# Altium schematic symbol library SCH - MCU - STM32 - ST MICROELECTRONICS STM32F768AIYX WLCSP180.SchLib: 1 symbol
Pins are listed as number, name and electrical type; pins without a type are passive.

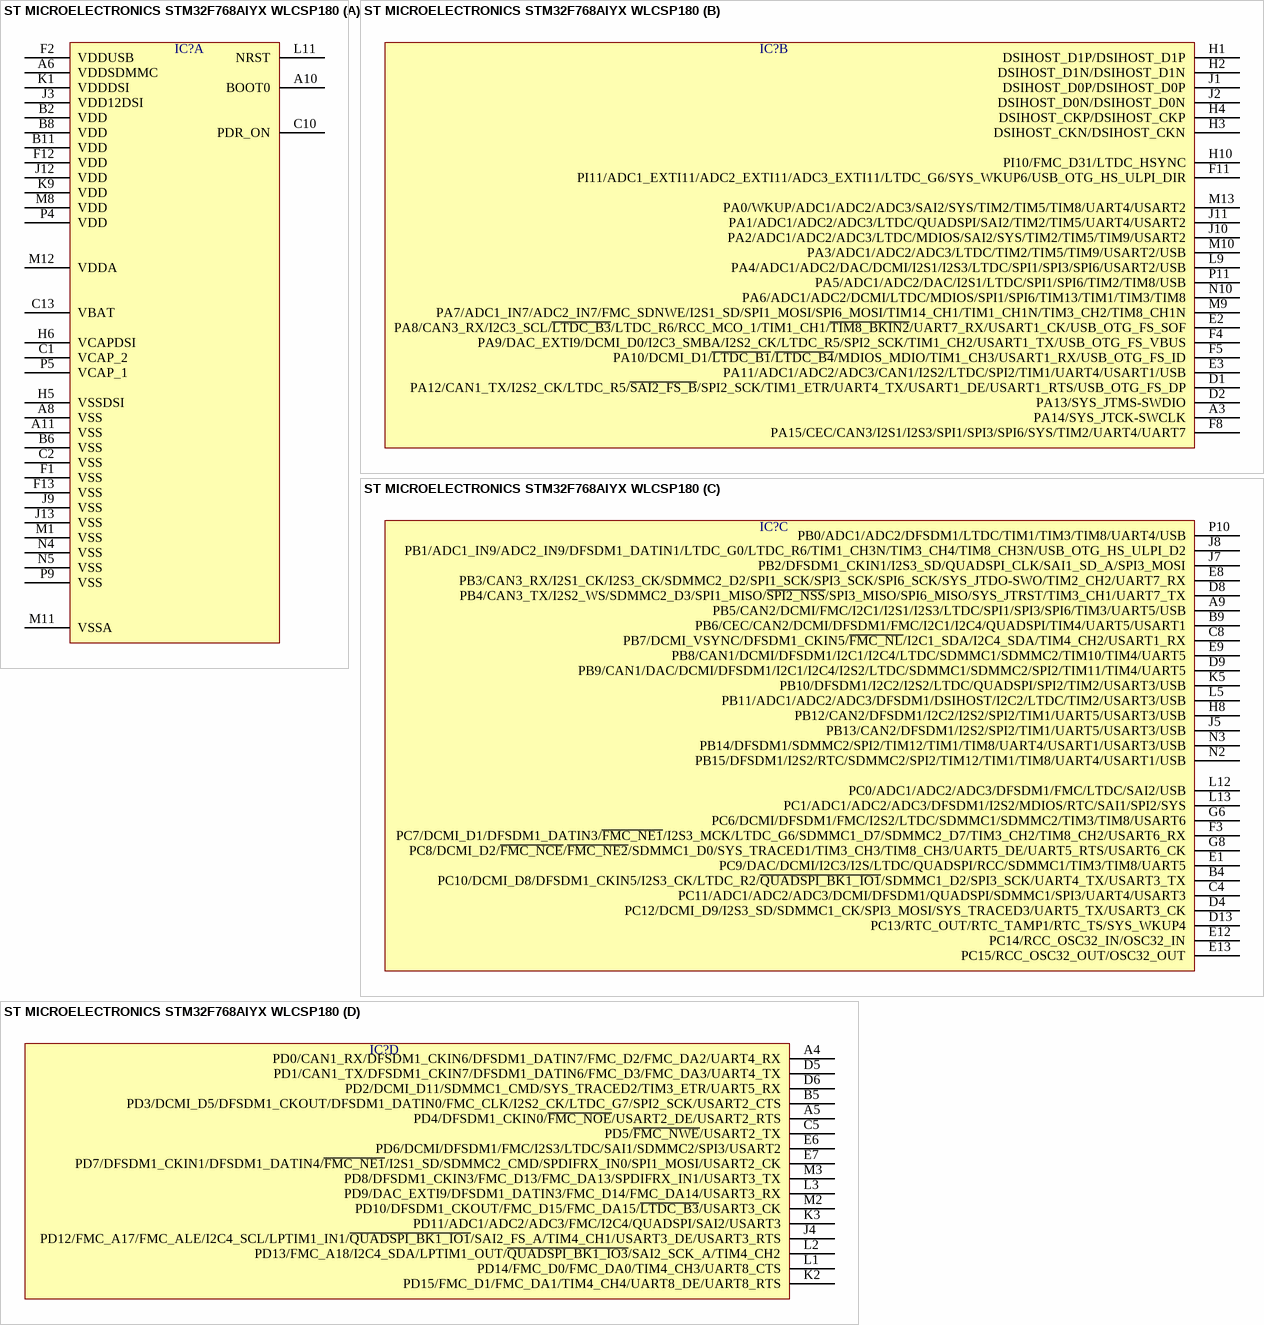
[diagram p0: symbol ST MICROELECTRONICS STM32F768AIYX WLCSP180]

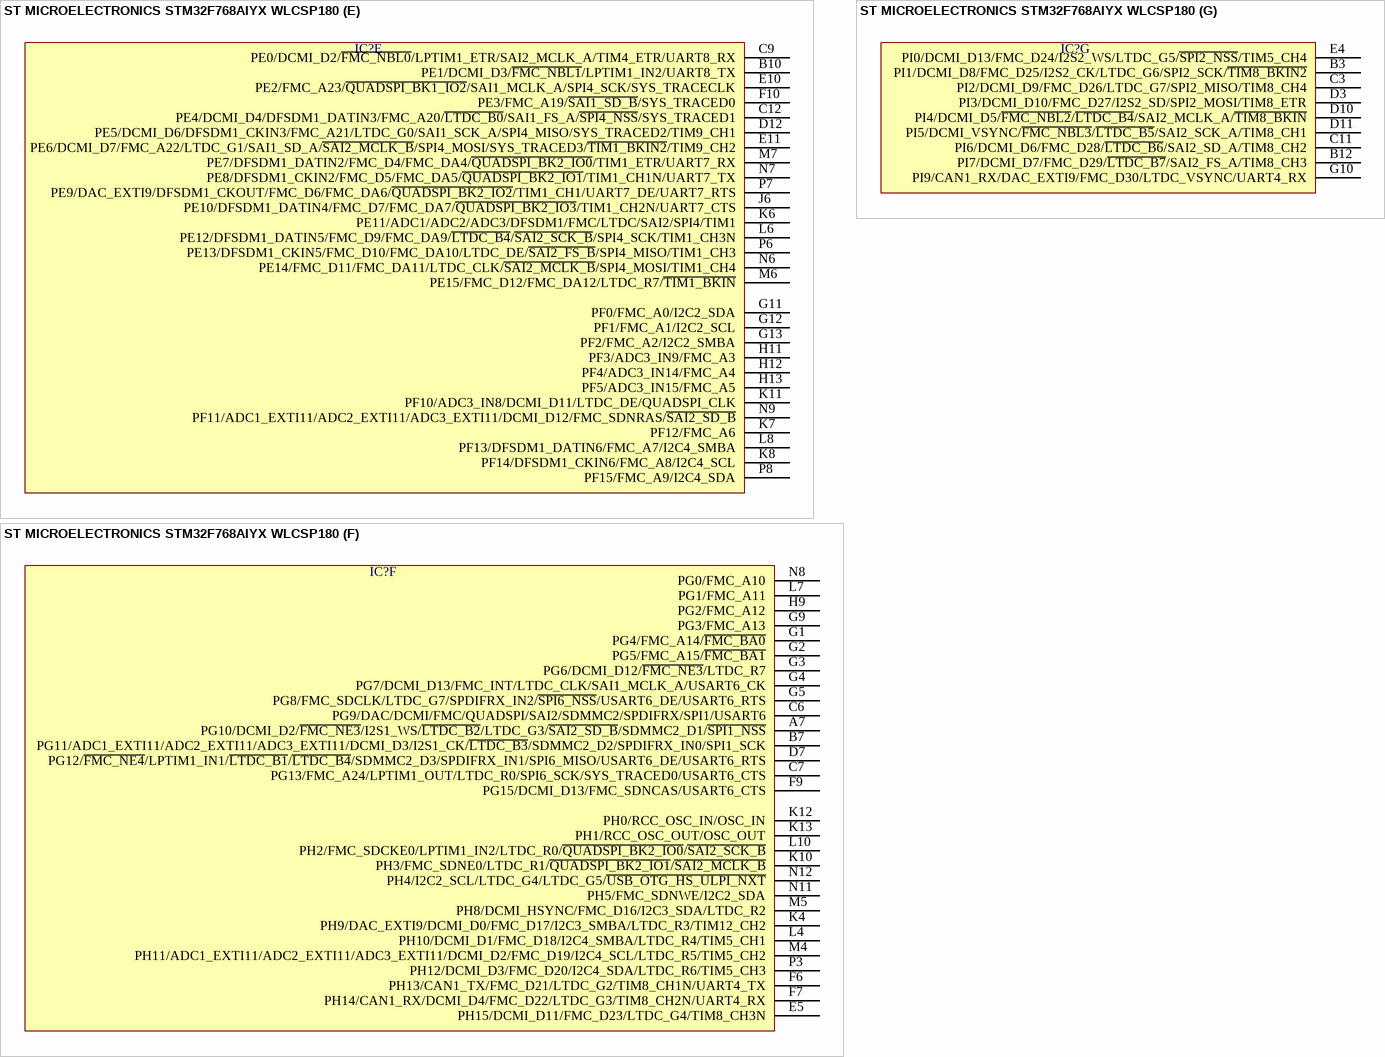
[diagram p1: symbol ST MICROELECTRONICS STM32F768AIYX WLCSP180]

## ST MICROELECTRONICS STM32F768AIYX WLCSP180
designator IC?  (value not drawn)
part A pins: A6 VDDSDMMC, A8 VSS, A10 BOOT0, A11 VSS, B2 VDD, B6 VSS, B8 VDD, B11 VDD, C1 VCAP_2, C2 VSS, C10 PDR_ON, C13 VBAT, F1 VSS, F2 VDDUSB, F12 VDD, F13 VSS, H5 VSSDSI, H6 VCAPDSI, J3 VDD12DSI, J9 VSS, J12 VDD, J13 VSS, K1 VDDDSI, K9 VDD, L11 NRST, M1 VSS, M8 VDD, M11 VSSA, M12 VDDA, N4 VSS, N5 VSS, P4 VDD, P5 VCAP_1, P9 VSS
part B pins: A3 PA14/SYS_JTCK-SWCLK, D1 PA12/CAN1_TX/I2S2_CK/LTDC_R5/~{SAI2_FS_B}/SPI2_SCK/TIM1_ETR/UART4_TX/USART1_DE/USART1_RTS/USB_OTG_FS_DP, D2 PA13/SYS_JTMS-SWDIO, E2 PA8/CAN3_RX/I2C3_SCL/~{LTDC_B3}/LTDC_R6/RCC_MCO_1/TIM1_CH1/~{TIM8_BKIN2}/UART7_RX/USART1_CK/USB_OTG_FS_SOF, E3 PA11/ADC1/ADC2/ADC3/CAN1/I2S2/LTDC/SPI2/TIM1/UART4/USART1/USB, F4 PA9/DAC_EXTI9/DCMI_D0/I2C3_SMBA/I2S2_CK/LTDC_R5/SPI2_SCK/TIM1_CH2/USART1_TX/USB_OTG_FS_VBUS, F5 PA10/DCMI_D1/~{LTDC_B1}/~{LTDC_B4}/MDIOS_MDIO/TIM1_CH3/USART1_RX/USB_OTG_FS_ID, F8 PA15/CEC/CAN3/I2S1/I2S3/SPI1/SPI3/SPI6/SYS/TIM2/UART4/UART7, F11 PI11/ADC1_EXTI11/ADC2_EXTI11/ADC3_EXTI11/LTDC_G6/SYS_WKUP6/USB_OTG_HS_ULPI_DIR, H1 DSIHOST_D1P/DSIHOST_D1P, H2 DSIHOST_D1N/DSIHOST_D1N, H3 DSIHOST_CKN/DSIHOST_CKN, H4 DSIHOST_CKP/DSIHOST_CKP, H10 PI10/FMC_D31/LTDC_HSYNC, J1 DSIHOST_D0P/DSIHOST_D0P, J2 DSIHOST_D0N/DSIHOST_D0N, J10 PA2/ADC1/ADC2/ADC3/LTDC/MDIOS/SAI2/SYS/TIM2/TIM5/TIM9/USART2, J11 PA1/ADC1/ADC2/ADC3/LTDC/QUADSPI/SAI2/TIM2/TIM5/UART4/USART2, L9 PA4/ADC1/ADC2/DAC/DCMI/I2S1/I2S3/LTDC/SPI1/SPI3/SPI6/USART2/USB, M9 PA7/ADC1_IN7/ADC2_IN7/FMC_SDNWE/I2S1_SD/SPI1_MOSI/SPI6_MOSI/TIM14_CH1/TIM1_CH1N/TIM3_CH2/TIM8_CH1N, M10 PA3/ADC1/ADC2/ADC3/LTDC/TIM2/TIM5/TIM9/USART2/USB, M13 PA0/WKUP/ADC1/ADC2/ADC3/SAI2/SYS/TIM2/TIM5/TIM8/UART4/USART2, N10 PA6/ADC1/ADC2/DCMI/LTDC/MDIOS/SPI1/SPI6/TIM13/TIM1/TIM3/TIM8, P11 PA5/ADC1/ADC2/DAC/I2S1/LTDC/SPI1/SPI6/TIM2/TIM8/USB
part C pins: A9 PB5/CAN2/DCMI/FMC/I2C1/I2S1/I2S3/LTDC/SPI1/SPI3/SPI6/TIM3/UART5/USB, B4 PC10/DCMI_D8/DFSDM1_CKIN5/I2S3_CK/LTDC_R2/~{QUADSPI_BK1_IO1}/SDMMC1_D2/SPI3_SCK/UART4_TX/USART3_TX, B9 PB6/CEC/CAN2/DCMI/DFSDM1/FMC/I2C1/I2C4/QUADSPI/TIM4/UART5/USART1, C4 PC11/ADC1/ADC2/ADC3/DCMI/DFSDM1/QUADSPI/SDMMC1/SPI3/UART4/USART3, C8 PB7/DCMI_VSYNC/DFSDM1_CKIN5/~{FMC_NL}/I2C1_SDA/I2C4_SDA/TIM4_CH2/USART1_RX, D4 PC12/DCMI_D9/I2S3_SD/SDMMC1_CK/SPI3_MOSI/SYS_TRACED3/UART5_TX/USART3_CK, D8 PB4/CAN3_TX/I2S2_WS/SDMMC2_D3/SPI1_MISO/~{SPI2_NSS}/SPI3_MISO/SPI6_MISO/SYS_JTRST/TIM3_CH1/UART7_TX, D9 PB9/CAN1/DAC/DCMI/DFSDM1/I2C1/I2C4/I2S2/LTDC/SDMMC1/SDMMC2/SPI2/TIM11/TIM4/UART5, D13 PC13/RTC_OUT/RTC_TAMP1/RTC_TS/SYS_WKUP4, E1 PC9/DAC/DCMI/I2C3/I2S/LTDC/QUADSPI/RCC/SDMMC1/TIM3/TIM8/UART5, E8 PB3/CAN3_RX/I2S1_CK/I2S3_CK/SDMMC2_D2/SPI1_SCK/SPI3_SCK/SPI6_SCK/SYS_JTDO-SWO/TIM2_CH2/UART7_RX, E9 PB8/CAN1/DCMI/DFSDM1/I2C1/I2C4/LTDC/SDMMC1/SDMMC2/TIM10/TIM4/UART5, E12 PC14/RCC_OSC32_IN/OSC32_IN, E13 PC15/RCC_OSC32_OUT/OSC32_OUT, F3 PC7/DCMI_D1/DFSDM1_DATIN3/~{FMC_NE1}/I2S3_MCK/LTDC_G6/SDMMC1_D7/SDMMC2_D7/TIM3_CH2/TIM8_CH2/USART6_RX, G6 PC6/DCMI/DFSDM1/FMC/I2S2/LTDC/SDMMC1/SDMMC2/TIM3/TIM8/USART6, G8 PC8/DCMI_D2/~{FMC_NCE}/~{FMC_NE2}/SDMMC1_D0/SYS_TRACED1/TIM3_CH3/TIM8_CH3/UART5_DE/UART5_RTS/USART6_CK, H8 PB12/CAN2/DFSDM1/I2C2/I2S2/SPI2/TIM1/UART5/USART3/USB, J5 PB13/CAN2/DFSDM1/I2S2/SPI2/TIM1/UART5/USART3/USB, J7 PB2/DFSDM1_CKIN1/I2S3_SD/QUADSPI_CLK/SAI1_SD_A/SPI3_MOSI, J8 PB1/ADC1_IN9/ADC2_IN9/DFSDM1_DATIN1/LTDC_G0/LTDC_R6/TIM1_CH3N/TIM3_CH4/TIM8_CH3N/USB_OTG_HS_ULPI_D2, K5 PB10/DFSDM1/I2C2/I2S2/LTDC/QUADSPI/SPI2/TIM2/USART3/USB, L5 PB11/ADC1/ADC2/ADC3/DFSDM1/DSIHOST/I2C2/LTDC/TIM2/USART3/USB, L12 PC0/ADC1/ADC2/ADC3/DFSDM1/FMC/LTDC/SAI2/USB, L13 PC1/ADC1/ADC2/ADC3/DFSDM1/I2S2/MDIOS/RTC/SAI1/SPI2/SYS, N2 PB15/DFSDM1/I2S2/RTC/SDMMC2/SPI2/TIM12/TIM1/TIM8/UART4/USART1/USB, N3 PB14/DFSDM1/SDMMC2/SPI2/TIM12/TIM1/TIM8/UART4/USART1/USART3/USB, P10 PB0/ADC1/ADC2/DFSDM1/LTDC/TIM1/TIM3/TIM8/UART4/USB
part D pins: A4 PD0/CAN1_RX/DFSDM1_CKIN6/DFSDM1_DATIN7/FMC_D2/FMC_DA2/UART4_RX, A5 PD4/DFSDM1_CKIN0/~{FMC_NOE}/USART2_DE/USART2_RTS, B5 PD3/DCMI_D5/DFSDM1_CKOUT/DFSDM1_DATIN0/FMC_CLK/I2S2_CK/LTDC_G7/SPI2_SCK/USART2_CTS, C5 PD5/~{FMC_NWE}/USART2_TX, D5 PD1/CAN1_TX/DFSDM1_CKIN7/DFSDM1_DATIN6/FMC_D3/FMC_DA3/UART4_TX, D6 PD2/DCMI_D11/SDMMC1_CMD/SYS_TRACED2/TIM3_ETR/UART5_RX, E6 PD6/DCMI/DFSDM1/FMC/I2S3/LTDC/SAI1/SDMMC2/SPI3/USART2, E7 PD7/DFSDM1_CKIN1/DFSDM1_DATIN4/~{FMC_NE1}/I2S1_SD/SDMMC2_CMD/SPDIFRX_IN0/SPI1_MOSI/USART2_CK, J4 PD12/FMC_A17/FMC_ALE/I2C4_SCL/LPTIM1_IN1/~{QUADSPI_BK1_IO1}/SAI2_FS_A/TIM4_CH1/USART3_DE/USART3_RTS, K2 PD15/FMC_D1/FMC_DA1/TIM4_CH4/UART8_DE/UART8_RTS, K3 PD11/ADC1/ADC2/ADC3/FMC/I2C4/QUADSPI/SAI2/USART3, L1 PD14/FMC_D0/FMC_DA0/TIM4_CH3/UART8_CTS, L2 PD13/FMC_A18/I2C4_SDA/LPTIM1_OUT/~{QUADSPI_BK1_IO3}/SAI2_SCK_A/TIM4_CH2, L3 PD9/DAC_EXTI9/DFSDM1_DATIN3/FMC_D14/FMC_DA14/USART3_RX, M2 PD10/DFSDM1_CKOUT/FMC_D15/FMC_DA15/~{LTDC_B3}/USART3_CK, M3 PD8/DFSDM1_CKIN3/FMC_D13/FMC_DA13/SPDIFRX_IN1/USART3_TX
part E pins: B10 PE1/DCMI_D3/~{FMC_NBL1}/LPTIM1_IN2/UART8_TX, C9 PE0/DCMI_D2/~{FMC_NBL0}/LPTIM1_ETR/SAI2_MCLK_A/TIM4_ETR/UART8_RX, C12 PE4/DCMI_D4/DFSDM1_DATIN3/FMC_A20/~{LTDC_B0}/SAI1_FS_A/~{SPI4_NSS}/SYS_TRACED1, D12 PE5/DCMI_D6/DFSDM1_CKIN3/FMC_A21/LTDC_G0/SAI1_SCK_A/SPI4_MISO/SYS_TRACED2/TIM9_CH1, E10 PE2/FMC_A23/~{QUADSPI_BK1_IO2}/SAI1_MCLK_A/SPI4_SCK/SYS_TRACECLK, E11 PE6/DCMI_D7/FMC_A22/LTDC_G1/SAI1_SD_A/~{SAI2_MCLK_B}/SPI4_MOSI/SYS_TRACED3/~{TIM1_BKIN2}/TIM9_CH2, F10 PE3/FMC_A19/~{SAI1_SD_B}/SYS_TRACED0, G11 PF0/FMC_A0/I2C2_SDA, G12 PF1/FMC_A1/I2C2_SCL, G13 PF2/FMC_A2/I2C2_SMBA, H11 PF3/ADC3_IN9/FMC_A3, H12 PF4/ADC3_IN14/FMC_A4, H13 PF5/ADC3_IN15/FMC_A5, J6 PE10/DFSDM1_DATIN4/FMC_D7/FMC_DA7/~{QUADSPI_BK2_IO3}/TIM1_CH2N/UART7_CTS, K6 PE11/ADC1/ADC2/ADC3/DFSDM1/FMC/LTDC/SAI2/SPI4/TIM1, K7 PF12/FMC_A6, K8 PF14/DFSDM1_CKIN6/FMC_A8/I2C4_SCL, K11 PF10/ADC3_IN8/DCMI_D11/LTDC_DE/QUADSPI_CLK, L6 PE12/DFSDM1_DATIN5/FMC_D9/FMC_DA9/~{LTDC_B4}/~{SAI2_SCK_B}/SPI4_SCK/TIM1_CH3N, L8 PF13/DFSDM1_DATIN6/FMC_A7/I2C4_SMBA, M6 PE15/FMC_D12/FMC_DA12/LTDC_R7/~{TIM1_BKIN}, M7 PE7/DFSDM1_DATIN2/FMC_D4/FMC_DA4/~{QUADSPI_BK2_IO0}/TIM1_ETR/UART7_RX, N6 PE14/FMC_D11/FMC_DA11/LTDC_CLK/~{SAI2_MCLK_B}/SPI4_MOSI/TIM1_CH4, N7 PE8/DFSDM1_CKIN2/FMC_D5/FMC_DA5/~{QUADSPI_BK2_IO1}/TIM1_CH1N/UART7_TX, N9 PF11/ADC1_EXTI11/ADC2_EXTI11/ADC3_EXTI11/DCMI_D12/FMC_SDNRAS/~{SAI2_SD_B}, P6 PE13/DFSDM1_CKIN5/FMC_D10/FMC_DA10/LTDC_DE/~{SAI2_FS_B}/SPI4_MISO/TIM1_CH3, P7 PE9/DAC_EXTI9/DFSDM1_CKOUT/FMC_D6/FMC_DA6/~{QUADSPI_BK2_IO2}/TIM1_CH1/UART7_DE/UART7_RTS, P8 PF15/FMC_A9/I2C4_SDA
part F pins: A7 PG10/DCMI_D2/~{FMC_NE3}/I2S1_WS/~{LTDC_B2}/LTDC_G3/~{SAI2_SD_B}/SDMMC2_D1/~{SPI1_NSS}, B7 PG11/ADC1_EXTI11/ADC2_EXTI11/ADC3_EXTI11/DCMI_D3/I2S1_CK/~{LTDC_B3}/SDMMC2_D2/SPDIFRX_IN0/SPI1_SCK, C6 PG9/DAC/DCMI/FMC/QUADSPI/SAI2/SDMMC2/SPDIFRX/SPI1/USART6, C7 PG13/FMC_A24/LPTIM1_OUT/LTDC_R0/SPI6_SCK/SYS_TRACED0/USART6_CTS, D7 PG12/~{FMC_NE4}/LPTIM1_IN1/~{LTDC_B1}/~{LTDC_B4}/SDMMC2_D3/SPDIFRX_IN1/SPI6_MISO/USART6_DE/USART6_RTS, E5 PH15/DCMI_D11/FMC_D23/LTDC_G4/TIM8_CH3N, F6 PH13/CAN1_TX/FMC_D21/LTDC_G2/TIM8_CH1N/UART4_TX, F7 PH14/CAN1_RX/DCMI_D4/FMC_D22/LTDC_G3/TIM8_CH2N/UART4_RX, F9 PG15/DCMI_D13/FMC_SDNCAS/USART6_CTS, G1 PG4/FMC_A14/~{FMC_BA0}, G2 PG5/FMC_A15/~{FMC_BA1}, G3 PG6/DCMI_D12/~{FMC_NE3}/LTDC_R7, G4 PG7/DCMI_D13/FMC_INT/LTDC_CLK/SAI1_MCLK_A/USART6_CK, G5 PG8/FMC_SDCLK/LTDC_G7/SPDIFRX_IN2/~{SPI6_NSS}/USART6_DE/USART6_RTS, G9 PG3/FMC_A13, H9 PG2/FMC_A12, K4 PH9/DAC_EXTI9/DCMI_D0/FMC_D17/I2C3_SMBA/LTDC_R3/TIM12_CH2, K10 PH3/FMC_SDNE0/LTDC_R1/~{QUADSPI_BK2_IO1}/~{SAI2_MCLK_B}, K12 PH0/RCC_OSC_IN/OSC_IN, K13 PH1/RCC_OSC_OUT/OSC_OUT, L4 PH10/DCMI_D1/FMC_D18/I2C4_SMBA/LTDC_R4/TIM5_CH1, L7 PG1/FMC_A11, L10 PH2/FMC_SDCKE0/LPTIM1_IN2/LTDC_R0/~{QUADSPI_BK2_IO0}/~{SAI2_SCK_B}, M4 PH11/ADC1_EXTI11/ADC2_EXTI11/ADC3_EXTI11/DCMI_D2/FMC_D19/I2C4_SCL/LTDC_R5/TIM5_CH2, M5 PH8/DCMI_HSYNC/FMC_D16/I2C3_SDA/LTDC_R2, N8 PG0/FMC_A10, N11 PH5/FMC_SDNWE/I2C2_SDA, N12 PH4/I2C2_SCL/LTDC_G4/LTDC_G5/~{USB_OTG_HS_ULPI_NXT}, P3 PH12/DCMI_D3/FMC_D20/I2C4_SDA/LTDC_R6/TIM5_CH3
part G pins: B3 PI1/DCMI_D8/FMC_D25/I2S2_CK/LTDC_G6/SPI2_SCK/~{TIM8_BKIN2}, B12 PI7/DCMI_D7/FMC_D29/~{LTDC_B7}/SAI2_FS_A/TIM8_CH3, C3 PI2/DCMI_D9/FMC_D26/LTDC_G7/SPI2_MISO/TIM8_CH4, C11 PI6/DCMI_D6/FMC_D28/~{LTDC_B6}/SAI2_SD_A/TIM8_CH2, D3 PI3/DCMI_D10/FMC_D27/I2S2_SD/SPI2_MOSI/TIM8_ETR, D10 PI4/DCMI_D5/~{FMC_NBL2}/~{LTDC_B4}/SAI2_MCLK_A/~{TIM8_BKIN}, D11 PI5/DCMI_VSYNC/~{FMC_NBL3}/~{LTDC_B5}/SAI2_SCK_A/TIM8_CH1, E4 PI0/DCMI_D13/FMC_D24/I2S2_WS/LTDC_G5/~{SPI2_NSS}/TIM5_CH4, G10 PI9/CAN1_RX/DAC_EXTI9/FMC_D30/LTDC_VSYNC/UART4_RX